# Altium footprint library CAPC3225X279N 1210.PcbLib: 1 footprints
Each footprint in its own frame and in the unit in brackets; x right, y up, seen from the top. Pads: shape width x height; smd on the part's side, far side on the other; paste and mask are expansions set on the pad; w line width, h text height; cw(c..) or ccw(c..) is an arc to the next point about the centre after c.
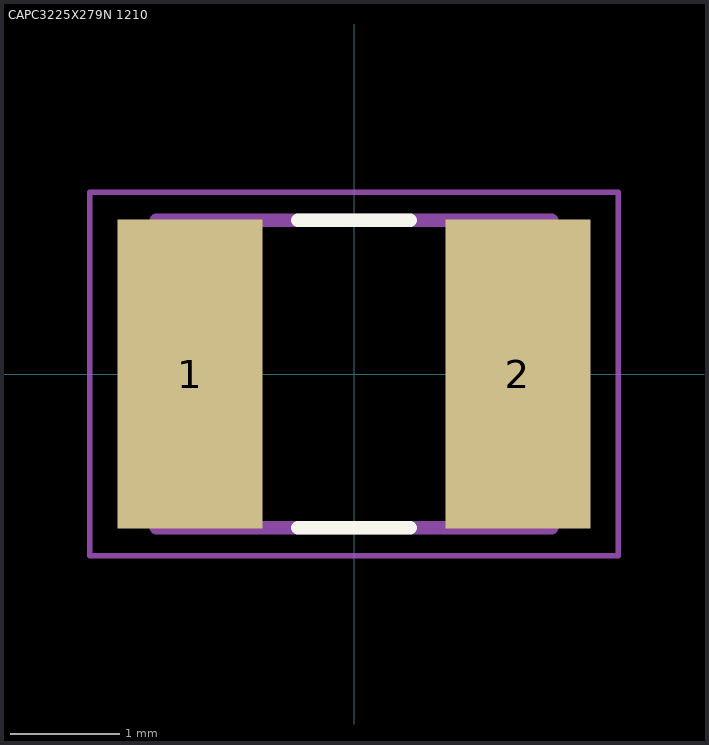
[diagram p0: the footprint, top view; thin cyan lines are the x and y axes]

## CAPC3225X279N 1210 [mm]
pads (2):
  rect 1.32x2.81 smd paste+0 mask+0.102: 1(-1.492,0) 2(1.492,0)
Top Overlay:
  lines w0.127: -0.51,-1.4 0.51,-1.4 ; -0.51,1.4 0.51,1.4
Assembly Top:
  lines w0.127: -1.8,-1.4 -1.8,1.4 1.8,1.4 1.8,-1.4 -1.8,-1.4
Top Courtyard:
  lines w0.05: -2.404,-1.655 -2.404,1.655 2.404,1.655 2.404,-1.655 -2.404,-1.655
3D body "step_temp.STEP": height 2.79, standoff 0, extent -1.6,-1.25 1.6,1.25